# Altium footprint library TMDX654GPEVM_BRD.PcbLib: 153 footprints (part 9 of 12)
Each footprint in its own frame and in the unit in brackets; x right, y up, seen from the top. Pads: shape width x height; smd on the part's side, far side on the other; paste and mask are expansions set on the pad; w line width, h text height; cw(c..) or ccw(c..) is an arc to the next point about the centre after c.
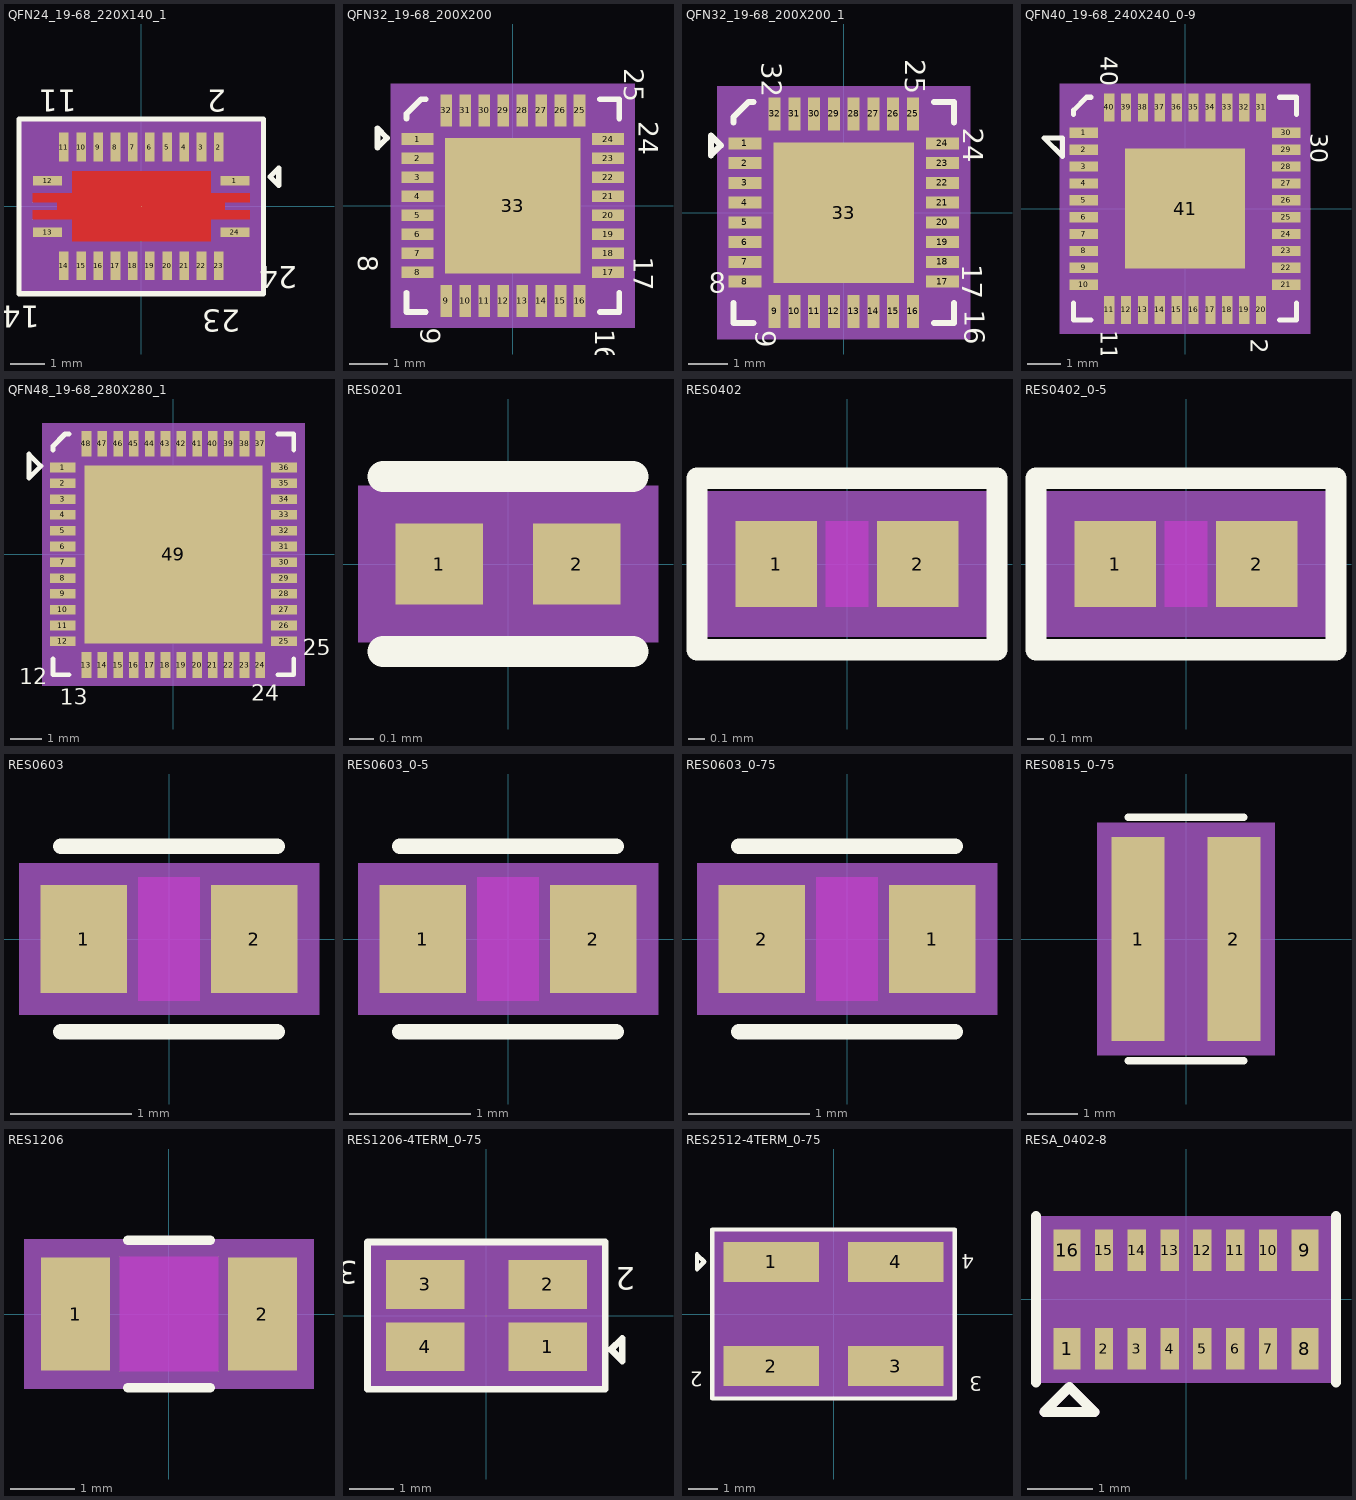
[diagram p8: the footprints below, top view; thin cyan lines are the x and y axes]

## QFN24_19-68_220X140_1 [mil] "QFN24_19-68_220X140_1"
pads (25):
  rect 33x11 smd: 1(107.28,29.53) 12(-107.28,29.53) 13(-107.28,-29.53) 24(107.28,-29.53)
  rect 11x33 smd: 2(88.58,67.91) 3(68.9,67.91) 4(49.21,67.91) 5(29.53,67.91) 6(9.84,67.91) 7(-9.84,67.91) 8(-29.53,67.91) 9(-49.21,67.91) 10(-68.9,67.91) 11(-88.58,67.91) 14(-88.58,-67.91) 15(-68.9,-67.91) 16(-49.21,-67.91) 17(-29.53,-67.91) 18(-9.84,-67.91) 19(9.84,-67.91) 20(29.53,-67.91) 21(49.21,-67.91) 22(68.9,-67.91) 23(88.58,-67.91)
  oct 1x1 smd: 25(0,0)
Top Layer:
  region: 79.3,40 -79.3,40 -79.3,14.84 -124.3,14.84 -124.3,5 -96.06,5 -96.06,-4.68 -124.3,-4.68 -124.3,-14.84 -79.3,-14.84 -79.3,-40 79.3,-40 79.3,-14.84 124.3,-14.84 124.3,-4.68 95.76,-4.68 95.76,5 124.3,5 124.3,14.84 79.3,14.84
  region: 79.3,40 -79.3,40 -79.3,14.84 -124.3,14.84 -124.3,5 -96.06,5 -96.06,-4.68 -124.3,-4.68 -124.3,-14.84 -79.3,-14.84 -79.3,-40 79.3,-40 79.3,-14.84 124.3,-14.84 124.3,-4.68 95.76,-4.68 95.76,5 124.3,5 124.3,14.84 79.3,14.84
Top Overlay:
  lines w6: -140,-100 -140,100 140,100 140,-100 -140,-100 ; 147.48,34 157.48,44 157.48,24 147.48,34
  text "24" at 178.48,-68.5 h25
  text "2" at 97.5,133.33 h25
  text "11" at -74,133.33 h25
  text "14" at -116.52,-113.5 h25
  text "23" at 113.48,-118.5 h25
Top Paste:
  region: 79.3,40 -79.3,40 -79.3,14.84 -124.3,14.84 -124.3,5 -96.06,5 -96.06,-4.68 -124.3,-4.68 -124.3,-14.84 -79.3,-14.84 -79.3,-40 79.3,-40 79.3,-14.84 124.3,-14.84 124.3,-4.68 95.76,-4.68 95.76,5 124.3,5 124.3,14.84 79.3,14.84
  region: 79.3,40 -79.3,40 -79.3,14.84 -124.3,14.84 -124.3,5 -96.06,5 -96.06,-4.68 -124.3,-4.68 -124.3,-14.84 -79.3,-14.84 -79.3,-40 79.3,-40 79.3,-14.84 124.3,-14.84 124.3,-4.68 95.76,-4.68 95.76,5 124.3,5 124.3,14.84 79.3,14.84
Top Solder:
  region: 82.3,43 82.3,17.84 127.3,17.84 127.3,2 98.76,2 98.76,-2 127.3,-2 127.3,-17.84 82.3,-17.84 82.3,-43 -82.3,-43 -82.3,-17.84 -127.3,-17.84 -127.3,-2 -99.06,-2 -99.06,2 -127.3,2 -127.3,17.84 -82.3,17.84 -82.3,43
  region: 82.3,43 82.3,17.84 127.3,17.84 127.3,2 98.76,2 98.76,-2 127.3,-2 127.3,-17.84 82.3,-17.84 82.3,-43 -82.3,-43 -82.3,-17.84 -127.3,-17.84 -127.3,-2 -99.06,-2 -99.06,2 -127.3,2 -127.3,17.84 -82.3,17.84 -82.3,43
Top Courtyard:
  dashed: 131.3,90.41 131.3,-90.41 -131.3,-90.41 -131.3,90.41
Top 3D Body:
  region: 140,-100 140,100 -140,100 -140,-100
Mechanical 15:
  lines w6: -110,-70 -110,70 110,70 110,-70 -110,-70 ; 112.5,30 127.5,45 127.5,15 112.5,30
  text "U105" at -48,10 h30
Mechanical 16:
  lines w6: -110,-70 -110,70 110,70 110,-70 -110,-70 ; 112.5,30 127.5,45 127.5,15 112.5,30
  text "U105" at -48,10 h30
Mechanical 17:
  lines w6: -110,-70 -110,70 110,70 110,-70 -110,-70 ; 112.5,30 127.5,45 127.5,15 112.5,30
  text "U105" at -48,10 h30
Mechanical 18:
  lines w6: -110,-70 -110,70 110,70 110,-70 -110,-70 ; 112.5,30 127.5,45 127.5,15 112.5,30
  text "U105" at -48,10 h30
Mechanical 19:
  lines w6: -110,-70 -110,70 110,70 110,-70 -110,-70 ; 112.5,30 127.5,45 127.5,15 112.5,30
  text "U105" at -48,10 h30
Mechanical47:
  text "23" at 65.25,-63.58 h10
  text "24" at 73.28,-22.86 h10
  text "1" at 91.28,36.19 h10
  text "22" at 45.56,-63.58 h10
  text "12" at -135,33.33 h10
  text "11" at -110,73.33 h10
  text "13" at -135,-26.67 h10
  text "25" at -8,0 h10
  text "14" at -111.92,-63.58 h10
  text "15" at -92.23,-63.58 h10
  text "16" at -72.55,-63.58 h10
  text "17" at -52.86,-63.58 h10
  text "18" at -33.18,-63.58 h10
  text "19" at -13.49,-63.58 h10
  text "20" at 6.19,-63.58 h10
  text "21" at 25.88,-63.58 h10
  text "7" at -23.51,75.25 h10
  text "6" at -3.82,75.25 h10
  text "2" at 74.92,75.25 h10
  text "3" at 55.23,75.25 h10
  text "8" at -43.19,75.25 h10
  text "9" at -62.88,75.25 h10
  text "4" at 35.55,75.25 h10
  text "10" at -90,73.33 h10
  text "5" at 15.86,75.25 h10
Top Assembly:
  lines w6: -110,-70 -110,70 110,70 110,-70 -110,-70 ; 112.5,30 127.5,45 127.5,15 112.5,30
  text ".Designator" at -48,10 h30
3D body: height 150, standoff 0, extent -140,-100 140,100

## QFN32_19-68_200X200 [mil] "QFN32_19-68_200X200"
pads (33):
  rect 33x12 smd: 1(-98.42,68.9) 2(-98.42,49.21) 3(-98.42,29.53) 4(-98.42,9.84) 5(-98.42,-9.84) 6(-98.42,-29.53) 7(-98.42,-49.21) 8(-98.42,-68.9) 17(98.42,-68.9) 18(98.42,-49.21) 19(98.42,-29.53) 20(98.42,-9.84) 21(98.42,9.84) 22(98.42,29.53) 23(98.42,49.21) 24(98.42,68.9)
  rect 12x33 smd: 9(-68.9,-98.42) 10(-49.21,-98.42) 11(-29.53,-98.42) 12(-9.84,-98.42) 13(9.84,-98.42) 14(29.53,-98.42) 15(49.21,-98.42) 16(68.9,-98.42) 25(68.9,98.42) 26(49.21,98.42) 27(29.53,98.42) 28(9.84,98.42) 29(-9.84,98.42) 30(-29.53,98.42) 31(-49.21,98.42) 32(-68.9,98.42)
  rect 140x140 smd: 33(0,0)
Top Overlay:
  lines w6: -110,-90 -110,-110 -90,-110 ; -110,90 -110,95 -95,110 -90,110 ; 90,-110 110,-110 110,-90 ; 90,110 110,110 110,90 ; -140,60 -140,80 -130,70 -140,60
  text ".Designator" at -150,-114.76 h30
  text "8" at -160,-51.26 h20
  text "9" at -95,-126.26 h20
  text "16" at 85,-127.76 h20
  text "17" at 125,-52.76 h20
  text "24" at 130,87.24 h20
  text "25" at 115,142.24 h20
Top Courtyard:
  dashed: -120.92,-120.92 -120.92,120.92 120.92,120.92 120.92,-120.92
Top 3D Body:
  region: -126,-126 -126,126 126,126 126,-126
Mechanical 15:
  lines w6: -115,60 -115,80 -105,70 -115,60 ; -100,-100 100,-100 100,100 -100,100 -100,-100
  text "U99" at -15,-34.76 h30
Mechanical 16:
  lines w6: -115,60 -115,80 -105,70 -115,60 ; -100,-100 100,-100 100,100 -100,100 -100,-100
  text "U99" at -15,-34.76 h30
Mechanical 17:
  lines w6: -115,60 -115,80 -105,70 -115,60 ; -100,-100 100,-100 100,100 -100,100 -100,-100
  text "U99" at -15,-34.76 h30
Mechanical 18:
  lines w6: -115,60 -115,80 -105,70 -115,60 ; -100,-100 100,-100 100,100 -100,100 -100,-100
  text "U99" at -15,-34.76 h30
Mechanical 19:
  lines w6: -115,60 -115,80 -105,70 -115,60 ; -100,-100 100,-100 100,100 -100,100 -100,-100
  text "U99" at -15,-34.76 h30
Mechanical47:
  text "31" at -49.21,90.42 h10
  text "27" at 29.53,90.42 h10
  text "28" at 9.84,90.42 h10
  text "29" at -9.84,90.42 h10
  text "33" at 0,-8 h10
  text "25" at 68.9,90.42 h10
  text "2" at -98.42,45.21 h10
  text "1" at -98.42,64.9 h10
  text "5" at -98.42,-13.84 h10
  text "3" at -98.42,25.53 h10
  text "4" at -98.42,5.84 h10
  text "30" at -29.53,90.42 h10
  text "8" at -98.42,-72.9 h10
  text "32" at -68.9,90.42 h10
  text "7" at -98.42,-53.21 h10
  text "26" at 49.21,90.42 h10
  text "13" at 9.84,-106.42 h10
  text "12" at -9.84,-106.42 h10
  text "18" at 98.42,-57.21 h10
  text "9" at -68.9,-102.42 h10
  text "14" at 29.53,-106.42 h10
  text "15" at 49.21,-106.42 h10
  text "6" at -98.42,-33.53 h10
  text "10" at -49.21,-106.42 h10
  text "17" at 98.42,-76.9 h10
  text "16" at 68.9,-106.42 h10
  text "11" at -29.53,-106.42 h10
  text "19" at 98.42,-37.53 h10
  text "24" at 98.42,60.9 h10
  text "23" at 98.42,41.21 h10
  text "22" at 98.42,21.53 h10
  text "21" at 98.42,1.84 h10
  text "20" at 98.42,-17.84 h10
Top Assembly:
  lines w6: -115,60 -115,80 -105,70 -115,60 ; -100,-100 100,-100 100,100 -100,100 -100,-100
Top Component Outline:
  text "32" at -80,142.24 h20
3D body: height 150, standoff 0, extent -126,-126 126,126

## QFN32_19-68_200X200_1 [mil] "QFN32_19-68_200X200_1"
pads (33):
  rect 33x12 smd: 1(-98.42,68.9) 2(-98.42,49.21) 3(-98.42,29.53) 4(-98.42,9.84) 5(-98.42,-9.84) 6(-98.42,-29.53) 7(-98.42,-49.21) 8(-98.42,-68.9) 17(98.42,-68.9) 18(98.42,-49.21) 19(98.42,-29.53) 20(98.42,-9.84) 21(98.42,9.84) 22(98.42,29.53) 23(98.42,49.21) 24(98.42,68.9)
  rect 12x33 smd: 9(-68.9,-98.42) 10(-49.21,-98.42) 11(-29.53,-98.42) 12(-9.84,-98.42) 13(9.84,-98.42) 14(29.53,-98.42) 15(49.21,-98.42) 16(68.9,-98.42) 25(68.9,98.42) 26(49.21,98.42) 27(29.53,98.42) 28(9.84,98.42) 29(-9.84,98.42) 30(-29.53,98.42) 31(-49.21,98.42) 32(-68.9,98.42)
  rect 140x140 smd: 33(0,0)
Top Overlay:
  lines w6: -110,-90 -110,-110 -90,-110 ; -110,90 -110,95 -95,110 -90,110 ; 90,-110 110,-110 110,-90 ; 90,110 110,110 110,90 ; -132.35,56.91 -132.35,76.91 -122.35,66.91 -132.35,56.91
  text ".Designator" at 104.85,189.74 h30
  text "8" at -134.29,-79.94 h20
  text "9" at -87.41,-117.07 h20
  text "16" at 120.89,-96.98 h20
  text "17" at 118.13,-51.73 h20
  text "24" at 119.24,84.56 h20
  text "25" at 61.3,152.98 h20
  text "32" at -81.62,149.67 h20
Top Courtyard:
  dashed: -120.92,-120.92 -120.92,120.92 120.92,120.92 120.92,-120.92
Top 3D Body:
  region: -126,-126 -126,126 126,126 126,-126
Mechanical 10:
  lines w6: -100,-100 100,-100 100,100 -100,100 -100,-100 ; -95,115 -75,115 -85,105 -95,115
  text "U32" at -15,36 h30
Mechanical 11:
  lines w6: -100,-100 100,-100 100,100 -100,100 -100,-100 ; -95,115 -75,115 -85,105 -95,115
  text "U32" at -15,36 h30
Mechanical 12:
  lines w6: -100,-100 100,-100 100,100 -100,100 -100,-100 ; -95,115 -75,115 -85,105 -95,115
  text "U32" at -15,36 h30
Mechanical 13:
  lines w6: -100,-100 100,-100 100,100 -100,100 -100,-100 ; -95,115 -75,115 -85,105 -95,115
  text "U32" at -15,36 h30
Mechanical 14:
  lines w6: -100,-100 100,-100 100,100 -100,100 -100,-100 ; -95,115 -75,115 -85,105 -95,115
  text "U32" at -15,36 h30
Mechanical47:
  text "13" at 9.84,-90.42 h10
  text "14" at 29.53,-90.42 h10
  text "10" at -49.21,-90.42 h10
  text "6" at -98.42,-25.53 h10
  text "2" at -98.42,53.21 h10
  text "23" at 98.42,57.21 h10
  text "19" at 98.42,-21.53 h10
  text "11" at -29.53,-90.42 h10
  text "31" at -49.21,106.42 h10
  text "29" at -9.84,106.42 h10
  text "30" at -29.53,106.42 h10
  text "27" at 29.53,106.42 h10
  text "28" at 9.84,106.42 h10
  text "22" at 98.42,37.53 h10
  text "24" at 98.42,76.9 h10
  text "4" at -98.42,13.84 h10
  text "16" at 68.9,-90.42 h10
  text "15" at 49.21,-90.42 h10
  text "9" at -68.9,-94.42 h10
  text "32" at -68.9,106.42 h10
  text "26" at 49.21,106.42 h10
  text "25" at 68.9,106.42 h10
  text "33" at 0,8 h10
  text "21" at 98.42,17.84 h10
  text "5" at -98.42,-5.84 h10
  text "20" at 98.42,-1.84 h10
  text "18" at 98.42,-41.21 h10
  text "1" at -98.42,72.9 h10
  text "12" at -9.84,-90.42 h10
  text "3" at -98.42,33.53 h10
  text "8" at -98.42,-64.9 h10
  text "7" at -98.42,-45.21 h10
  text "17" at 98.42,-60.9 h10
Top Assembly:
  lines w6: -100,-100 100,-100 100,100 -100,100 -100,-100 ; -95,115 -75,115 -85,105 -95,115
3D body: height 150, standoff 0, extent -126,-126 126,126

## QFN40_19-68_240X240_0-9 [mil] "QFN40_19-68_240X240_0-9"
pads (41):
  rect 33x12 smd: 1(-118.11,88.58) 2(-118.11,68.9) 3(-118.11,49.21) 4(-118.11,29.53) 5(-118.11,9.84) 6(-118.11,-9.84) 7(-118.11,-29.53) 8(-118.11,-49.21) 9(-118.11,-68.9) 10(-118.11,-88.58) 21(118.11,-88.58) 22(118.11,-68.9) 23(118.11,-49.21) 24(118.11,-29.53) 25(118.11,-9.84) 26(118.11,9.84) 27(118.11,29.53) 28(118.11,49.21) 29(118.11,68.9) 30(118.11,88.58)
  rect 12x33 smd: 11(-88.58,-118.11) 12(-68.9,-118.11) 13(-49.21,-118.11) 14(-29.53,-118.11) 15(-9.84,-118.11) 16(9.84,-118.11) 17(29.53,-118.11) 18(49.21,-118.11) 19(68.9,-118.11) 20(88.58,-118.11) 31(88.58,118.11) 32(68.9,118.11) 33(49.21,118.11) 34(29.53,118.11) 35(9.84,118.11) 36(-9.84,118.11) 37(-29.53,118.11) 38(-49.21,118.11) 39(-68.9,118.11) 40(-88.58,118.11)
  rect 140x140 smd: 41(0,0)
Top Overlay:
  lines w6: -130,-110 -130,-130 -110,-130 ; -130,110 -130,115 -115,130 -110,130 ; 110,-130 130,-130 130,-110 ; 110,130 130,130 130,110 ; -164.41,82.3 -143.2,82.3 -143.2,61.09 -164.41,82.3
  text ".Designator" at -148.5,216 h30
  text "11" at -98.5,-142 h20
  text "20" at 76.5,-152 h20
  text "30" at 146.5,88 h20
  text "40" at -98.5,178 h20
Top Courtyard:
  dashed: -140.61,-140.61 -140.61,140.61 140.61,140.61 140.61,-140.61
Top 3D Body:
  region: -146,-146 -146,146 146,146 146,-146
Mechanical 15:
  lines w6: -140,75 -140,105 -125,90 -140,75 ; -120,-120 120,-120 120,120 -120,120 -120,-120
  text "U75" at -13.5,-34 h30
Mechanical 16:
  lines w6: -140,75 -140,105 -125,90 -140,75 ; -120,-120 120,-120 120,120 -120,120 -120,-120
  text "U75" at -13.5,-34 h30
Mechanical 17:
  lines w6: -140,75 -140,105 -125,90 -140,75 ; -120,-120 120,-120 120,120 -120,120 -120,-120
  text "U75" at -13.5,-34 h30
Mechanical 18:
  lines w6: -140,75 -140,105 -125,90 -140,75 ; -120,-120 120,-120 120,120 -120,120 -120,-120
  text "U75" at -13.5,-34 h30
Mechanical 19:
  lines w6: -140,75 -140,105 -125,90 -140,75 ; -120,-120 120,-120 120,120 -120,120 -120,-120
  text "U75" at -13.5,-34 h30
Mechanical47:
  text "5" at -118.11,0.84 h10
  text "4" at -118.11,20.53 h10
  text "26" at 118.11,-3.16 h10
  text "27" at 118.11,16.53 h10
  text "22" at 118.11,-81.9 h10
  text "19" at 68.9,-126.11 h10
  text "20" at 88.58,-126.11 h10
  text "23" at 118.11,-62.21 h10
  text "18" at 49.21,-126.11 h10
  text "21" at 118.11,-101.58 h10
  text "15" at -9.84,-126.11 h10
  text "16" at 9.84,-126.11 h10
  text "3" at -118.11,40.21 h10
  text "36" at -9.84,110.11 h10
  text "37" at -29.53,110.11 h10
  text "28" at 118.11,36.21 h10
  text "34" at 29.53,110.11 h10
  text "33" at 49.21,110.11 h10
  text "24" at 118.11,-42.53 h10
  text "6" at -118.11,-18.84 h10
  text "11" at -88.58,-126.11 h10
  text "2" at -118.11,59.9 h10
  text "8" at -118.11,-58.21 h10
  text "10" at -118.11,-101.58 h10
  text "9" at -118.11,-77.9 h10
  text "30" at 118.11,75.58 h10
  text "32" at 68.9,110.11 h10
  text "13" at -49.21,-126.11 h10
  text "29" at 118.11,55.9 h10
  text "1" at -118.11,79.58 h10
  text "12" at -68.9,-126.11 h10
  text "7" at -118.11,-38.53 h10
  text "35" at 9.84,110.11 h10
  text "38" at -49.21,110.11 h10
  text "17" at 29.53,-126.11 h10
  text "14" at -29.53,-126.11 h10
  text "41" at 0,-8 h10
  text "25" at 118.11,-22.84 h10
  text "31" at 88.58,110.11 h10
  text "40" at -88.58,110.11 h10
  text "39" at -68.9,110.11 h10
Top Assembly:
  lines w6: -140,75 -140,105 -125,90 -140,75 ; -120,-120 120,-120 120,120 -120,120 -120,-120
Top Component Outline:
  text "10" at -186,-96.67 h20
  text "21" at 136.5,-92 h20
  text "31" at 74,153.33 h20
3D body: height 150, standoff 0, extent -146,-146 146,146

## QFN48_19-68_280X280_1 [mil] "QFN48_19-68_280X280_1"
pads (49):
  rect 32x12 smd: 1(-137.79,108.27) 2(-137.79,88.58) 3(-137.79,68.9) 4(-137.79,49.21) 5(-137.79,29.53) 6(-137.79,9.84) 7(-137.79,-9.84) 8(-137.79,-29.53) 9(-137.79,-49.21) 10(-137.79,-68.9) 11(-137.79,-88.58) 12(-137.79,-108.27) 25(137.79,-108.27) 26(137.79,-88.58) 27(137.79,-68.9) 28(137.79,-49.21) 29(137.79,-29.53) 30(137.79,-9.84) 31(137.79,9.84) 32(137.79,29.53) 33(137.79,49.21) 34(137.79,68.9) 35(137.79,88.58) 36(137.79,108.27)
  rect 12x32 smd: 13(-108.27,-137.79) 14(-88.58,-137.79) 15(-68.9,-137.79) 16(-49.21,-137.79) 17(-29.53,-137.79) 18(-9.84,-137.79) 19(9.84,-137.79) 20(29.53,-137.79) 21(49.21,-137.79) 22(68.9,-137.79) 23(88.58,-137.79) 24(108.27,-137.79) 37(108.27,137.79) 38(88.58,137.79) 39(68.9,137.79) 40(49.21,137.79) 41(29.53,137.79) 42(9.84,137.79) 43(-9.84,137.79) 44(-29.53,137.79) 45(-49.21,137.79) 46(-68.9,137.79) 47(-88.58,137.79) 48(-108.27,137.79)
  rect 222x222 smd: 49(0,0)
Top Overlay:
  lines w6: -150,-130 -150,-150 -130,-150 ; -150,130 -150,135 -135,150 -130,150 ; 130,-150 150,-150 150,-130 ; 130,150 150,150 150,130 ; -180,95 -180,125 -165,110 -180,95
  text ".Designator" at -247.84,136.49 h30
  text "25" at 161.37,-125.3 h20
  text "13" at -141.56,-187.37 h20
  text "12" at -192.32,-161.99 h20
  text "24" at 97.09,-182.41 h20
Top Courtyard:
  dashed: -159.79,-159.79 -159.79,159.79 159.79,159.79 159.79,-159.79
Top 3D Body:
  region: -163.5,-163.5 -163.5,163.5 163.5,163.5 163.5,-163.5
Mechanical 10:
  lines w6: -155,95 -155,125 -140,110 -155,95 ; -140,-140 140,-140 140,140 -140,140 -140,-140
  text "U31" at -36,-10 h30
Mechanical 11:
  lines w6: -155,95 -155,125 -140,110 -155,95 ; -140,-140 140,-140 140,140 -140,140 -140,-140
  text "U31" at -36,-10 h30
Mechanical 12:
  lines w6: -155,95 -155,125 -140,110 -155,95 ; -140,-140 140,-140 140,140 -140,140 -140,-140
  text "U31" at -36,-10 h30
Mechanical 13:
  lines w6: -155,95 -155,125 -140,110 -155,95 ; -140,-140 140,-140 140,140 -140,140 -140,-140
  text "U31" at -36,-10 h30
Mechanical 14:
  lines w6: -155,95 -155,125 -140,110 -155,95 ; -140,-140 140,-140 140,140 -140,140 -140,-140
  text "U31" at -36,-10 h30
Mechanical47:
  text "47" at -96.58,137.79 h10
  text "37" at 100.27,137.79 h10
  text "16" at -57.21,-137.79 h10
  text "28" at 129.79,-49.21 h10
  text "29" at 129.79,-29.53 h10
  text "25" at 129.79,-108.27 h10
  text "26" at 129.79,-88.58 h10
  text "44" at -37.53,137.79 h10
  text "5" at -141.79,29.53 h10
  text "32" at 129.79,29.53 h10
  text "49" at -8,0 h10
  text "34" at 129.79,68.9 h10
  text "40" at 41.21,137.79 h10
  text "19" at 1.84,-137.79 h10
  text "30" at 129.79,-9.84 h10
  text "41" at 21.53,137.79 h10
  text "9" at -141.79,-49.21 h10
  text "3" at -141.79,68.9 h10
  text "35" at 129.79,88.58 h10
  text "2" at -141.79,88.58 h10
  text "7" at -141.79,-9.84 h10
  text "4" at -141.79,49.21 h10
  text "33" at 129.79,49.21 h10
  text "15" at -76.9,-137.79 h10
  text "1" at -141.79,108.27 h10
  text "10" at -145.79,-68.9 h10
  text "8" at -141.79,-29.53 h10
  text "11" at -145.79,-88.58 h10
  text "48" at -116.27,137.79 h10
  text "13" at -116.27,-137.79 h10
  text "18" at -17.84,-137.79 h10
  text "36" at 129.79,108.27 h10
  text "24" at 100.27,-137.79 h10
  text "6" at -141.79,9.84 h10
  text "31" at 129.79,9.84 h10
  text "42" at 1.84,137.79 h10
  text "12" at -145.79,-108.27 h10
  text "46" at -76.9,137.79 h10
  text "39" at 60.9,137.79 h10
  text "45" at -57.21,137.79 h10
  text "17" at -37.53,-137.79 h10
  text "43" at -17.84,137.79 h10
  text "27" at 129.79,-68.9 h10
  text "38" at 80.58,137.79 h10
  text "14" at -96.58,-137.79 h10
  text "22" at 60.9,-137.79 h10
  text "21" at 41.21,-137.79 h10
  text "23" at 80.58,-137.79 h10
  text "20" at 21.53,-137.79 h10
Top Assembly:
  lines w6: -155,95 -155,125 -140,110 -155,95 ; -140,-140 140,-140 140,140 -140,140 -140,-140
Top Component Outline:
  text "48" at -125.28,162.46 h20
  text "37" at 73.64,158.05 h20
  text "36" at 177.72,98.52 h20
3D body: height 150, standoff 0, extent -163.5,-163.5 163.5,163.5

## RES0201 [mil] "RES0201"
pads (2):
  rect 14x13 smd: 1(-11.02,0) 2(11.02,0)
Top Overlay:
  lines w5: -20,-14 20,-14 ; -20,14 20,14
  text ".Designator" at -145.45,-8.04 h30
Top Courtyard:
  dashed: -24.02,-12.5 -24.02,12.5 24.02,12.5 24.02,-12.5
Top 3D Body:
  lines w1: -22.05,-10.63 22.05,-10.63 22.05,10.63 -22.05,10.63 -22.05,-10.63
Mechanical 10:
  lines w6: -10,-5 10,-5 10,5 -10,5 -10,-5
  text "R242" at -118,-15 h30
Mechanical 11:
  lines w6: -10,-5 10,-5 10,5 -10,5 -10,-5
  text "R242" at -118,-15 h30
Mechanical 12:
  lines w6: -10,-5 10,-5 10,5 -10,5 -10,-5
  text "R242" at -118,-15 h30
Mechanical 13:
  lines w6: -10,-5 10,-5 10,5 -10,5 -10,-5
  text "R242" at -118,-15 h30
Mechanical 14:
  lines w6: -10,-5 10,-5 10,5 -10,5 -10,-5
  text "R242" at -118,-15 h30
Mechanical47:
  text "1" at -15.02,0 h10
  text "2" at 7.02,0 h10
Top Assembly:
  lines w6: -10,-5 10,-5 10,5 -10,5 -10,-5

## RES0402 [mil] "RES0402"
pads (2):
  rect 19x20 smd: 1(-16.54,0) 2(16.54,0)
Top Layer keep-out:
  region: -5,-10 -5,10 5,10 5,-10
Top Overlay:
  lines w5: -35,-20 35,-20 35,20 -35,20 -35,-20
  text ".Designator" at -135.95,-37.52 h30
Top Courtyard:
  dashed: -33.04,-17 -33.04,17 33.04,17 33.04,-17
Top 3D Body:
  region: -29.92,-14.96 -29.92,14.96 29.92,14.96 29.92,-14.96
Mechanical 15:
  lines w6: -20,-10 20,-10 20,10 -20,10 -20,-10
  text "R430" at 80.05,-60.52 h30
Mechanical 16:
  lines w6: -20,-10 20,-10 20,10 -20,10 -20,-10
  text "R430" at 80.05,-60.52 h30
Mechanical 17:
  lines w6: -20,-10 20,-10 20,10 -20,10 -20,-10
  text "R430" at 80.05,-60.52 h30
Mechanical 18:
  lines w6: -20,-10 20,-10 20,10 -20,10 -20,-10
  text "R430" at 80.05,-60.52 h30
Mechanical 19:
  lines w6: -20,-10 20,-10 20,10 -20,10 -20,-10
  text "R430" at 80.05,-60.52 h30
Mechanical47:
  text "2" at 16.54,-4 h10
  text "1" at -16.54,-4 h10
Top Assembly:
  lines w6: -20,-10 20,-10 20,10 -20,10 -20,-10
3D body: height 150, standoff 0, extent -29.92,-14.96 29.92,14.96

## RES0402_0-5 [mil] "RES0402_0-5"
pads (2):
  rect 19x20 smd: 1(-16.54,0) 2(16.54,0)
Top Layer keep-out:
  region: -5,-10 5,-10 5,10 -5,10
Top Overlay:
  lines w5: -35,-20 35,-20 35,20 -35,20 -35,-20
  text ".Designator" at -133.12,-12.5 h30
Top Courtyard:
  dashed: -33.04,-17 -33.04,17 33.04,17 33.04,-17
Top 3D Body:
  region: -29.92,-14.96 -29.92,14.96 29.92,14.96 29.92,-14.96
Mechanical 10:
  lines w6: -20,-10 20,-10 20,10 -20,10 -20,-10
  text "R321" at -80.12,38.5 h30
Mechanical 11:
  lines w6: -20,-10 20,-10 20,10 -20,10 -20,-10
  text "R321" at -80.12,38.5 h30
Mechanical 12:
  lines w6: -20,-10 20,-10 20,10 -20,10 -20,-10
  text "R321" at -80.12,38.5 h30
Mechanical 13:
  lines w6: -20,-10 20,-10 20,10 -20,10 -20,-10
  text "R321" at -80.12,38.5 h30
Mechanical 14:
  lines w6: -20,-10 20,-10 20,10 -20,10 -20,-10
  text "R321" at -80.12,38.5 h30
Mechanical47:
  text "2" at 16.54,4 h10
  text "1" at -16.54,4 h10
Top Assembly:
  lines w6: -20,-10 20,-10 20,10 -20,10 -20,-10
3D body: height 150, standoff 0, extent -29.92,-14.96 29.92,14.96

## RES0603 [mil] "RES0603"
pads (2):
  rect 28x35 smd: 1(-27.56,0) 2(27.56,0)
Top Layer keep-out:
  region: -10,20 -10,-20 10,-20 10,20
Top Overlay:
  lines w5: -35,-30 35,-30 ; -35,30 35,30
  text ".Designator" at 52.7,78.15 h30
Top Courtyard:
  dashed: -48.56,-24.5 -48.56,24.5 48.56,24.5 48.56,-24.5
Top 3D Body:
  region: -45.28,-23.62 -45.28,23.62 45.28,23.62 45.28,-23.62
Mechanical 15:
  lines w6: -35,-20 35,-20 35,20 -35,20 -35,-20
  text "R362" at -51.3,68.15 h30
Mechanical 16:
  lines w6: -35,-20 35,-20 35,20 -35,20 -35,-20
  text "R362" at -51.3,68.15 h30
Mechanical 17:
  lines w6: -35,-20 35,-20 35,20 -35,20 -35,-20
  text "R362" at -51.3,68.15 h30
Mechanical 18:
  lines w6: -35,-20 35,-20 35,20 -35,20 -35,-20
  text "R362" at -51.3,68.15 h30
Mechanical 19:
  lines w6: -35,-20 35,-20 35,20 -35,20 -35,-20
  text "R362" at -51.3,68.15 h30
Mechanical47:
  text "1" at -31.56,0 h10
  text "2" at 23.56,0 h10
Top Assembly:
  lines w6: -35,-20 35,-20 35,20 -35,20 -35,-20
3D body: height 150, standoff 0, extent -45.28,-23.62 45.28,23.62

## RES0603_0-5 [mil] "RES0603_0-5"
pads (2):
  rect 28x35 smd: 1(-27.56,0) 2(27.56,0)
Top Layer keep-out:
  region: -10,20 -10,-20 10,-20 10,20
Top Overlay:
  lines w5: -35,-30 35,-30 ; -35,30 35,30
  text ".Designator" at 43,80.65 h30
Top Courtyard:
  dashed: -48.56,-24.5 -48.56,24.5 48.56,24.5 48.56,-24.5
Top 3D Body:
  region: -45.28,-23.62 -45.28,23.62 45.28,23.62 45.28,-23.62
Mechanical 15:
  lines w6: -35,-20 35,-20 35,20 -35,20 -35,-20
  text "R354" at 17,123.65 h30
Mechanical 16:
  lines w6: -35,-20 35,-20 35,20 -35,20 -35,-20
  text "R354" at 17,123.65 h30
Mechanical 17:
  lines w6: -35,-20 35,-20 35,20 -35,20 -35,-20
  text "R354" at 17,123.65 h30
Mechanical 18:
  lines w6: -35,-20 35,-20 35,20 -35,20 -35,-20
  text "R354" at 17,123.65 h30
Mechanical 19:
  lines w6: -35,-20 35,-20 35,20 -35,20 -35,-20
  text "R354" at 17,123.65 h30
Mechanical47:
  text "2" at 27.56,4 h10
  text "1" at -27.56,4 h10
Top Assembly:
  lines w6: -35,-20 35,-20 35,20 -35,20 -35,-20
3D body: height 150, standoff 0, extent -45.28,-23.62 45.28,23.62

## RES0603_0-75 [mil] "RES0603_0-75"
pads (2):
  rect 28x35 smd: 1(27.56,0) 2(-27.56,0)
Top Layer keep-out:
  region: 10,-20 10,20 -10,20 -10,-20
Top Overlay:
  lines w5: -35,-30 35,-30 ; -35,30 35,30
  text ".Designator" at 133,14 h30
Top Courtyard:
  dashed: 48.56,24.5 48.56,-24.5 -48.56,-24.5 -48.56,24.5
Top 3D Body:
  region: 45.28,23.62 45.28,-23.62 -45.28,-23.62 -45.28,23.62
Mechanical 15:
  lines w6: -35,-20 -35,20 35,20 35,-20 -35,-20
  text "R17" at 50,16 h30
Mechanical 16:
  lines w6: -35,-20 -35,20 35,20 35,-20 -35,-20
  text "R17" at 50,16 h30
Mechanical 17:
  lines w6: -35,-20 -35,20 35,20 35,-20 -35,-20
  text "R17" at 50,16 h30
Mechanical 18:
  lines w6: -35,-20 -35,20 35,20 35,-20 -35,-20
  text "R17" at 50,16 h30
Mechanical 19:
  lines w6: -35,-20 -35,20 35,20 35,-20 -35,-20
  text "R17" at 50,16 h30
Mechanical47:
  text "2" at -31.56,0 h10
  text "1" at 23.56,0 h10
Top Assembly:
  lines w6: -35,-20 -35,20 35,20 35,-20 -35,-20
3D body: height 150, standoff 0, extent -45.28,-23.62 45.28,23.62

## RES0815_0-75 [mil] "RES0815_0-75"
pads (2):
  rect 41x159 smd: 1(-37.4,0) 2(37.4,0)
Top Overlay:
  lines w6: -45,-95 45,-95 ; -45,95 45,95
  text ".Designator" at -13.31,-107.16 h30
Top Courtyard:
  dashed: -64.9,-87 -64.9,87 64.9,87 64.9,-87
Top 3D Body:
  region: -69,-90.5 -69,90.5 69,90.5 69,-90.5
Mechanical 10:
  lines w6: -45,-80 45,-80 45,80 -45,80 -45,-80
  text "R62" at -15,34 h30
Mechanical 11:
  lines w6: -45,-80 45,-80 45,80 -45,80 -45,-80
  text "R62" at -15,34 h30
Mechanical 12:
  lines w6: -45,-80 45,-80 45,80 -45,80 -45,-80
  text "R62" at -15,34 h30
Mechanical 13:
  lines w6: -45,-80 45,-80 45,80 -45,80 -45,-80
  text "R62" at -15,34 h30
Mechanical 14:
  lines w6: -45,-80 45,-80 45,80 -45,80 -45,-80
  text "R62" at -15,34 h30
Mechanical47:
  text "1" at -37.4,4 h10
  text "2" at 37.4,4 h10
Top Assembly:
  lines w6: -45,-80 45,-80 45,80 -45,80 -45,-80
3D body: height 150, standoff 0, extent -69,-90.5 69,90.5

## RES1206 [mil] "RES1206"
pads (2):
  rect 42x69 smd: 1(-57.09,0) 2(57.09,0)
Top Layer keep-out:
  region: -30,35 -30,-35 30,-35 30,35
Top Overlay:
  lines w6: -25,-45 25,-45 ; -25,45 25,45
Top Courtyard:
  dashed: -85.09,-41.5 -85.09,41.5 85.09,41.5 85.09,-41.5
Top 3D Body:
  region: -88.5,-45.5 -88.5,45.5 88.5,45.5 88.5,-45.5
Mechanical 10:
  lines w6: -65,-35 65,-35 65,35 -65,35 -65,-35
  text "R5" at -24.5,-20 h30
Mechanical 11:
  lines w6: -65,-35 65,-35 65,35 -65,35 -65,-35
  text "R5" at -24.5,-20 h30
Mechanical 12:
  lines w6: -65,-35 65,-35 65,35 -65,35 -65,-35
  text "R5" at -24.5,-20 h30
Mechanical 13:
  lines w6: -65,-35 65,-35 65,35 -65,35 -65,-35
  text "R5" at -24.5,-20 h30
Mechanical 14:
  lines w6: -65,-35 65,-35 65,35 -65,35 -65,-35
  text "R5" at -24.5,-20 h30
Mechanical47:
  text "2" at 57.09,4 h10
  text "1" at -57.09,4 h10
Top Assembly:
  lines w6: -65,-35 65,-35 65,35 -65,35 -65,-35
  text ".Designator" at -24.5,-20 h30
3D body: height 150, standoff 0, extent -88.5,-45.5 88.5,45.5

## RES1206-4TERM_0-75 [mil] "RES1206-4TERM_0-75"
pads (4):
  rect 69x43 smd: 1(54.13,-27.56) 2(54.13,27.56) 3(-54.13,27.56) 4(-54.13,-27.56)
Top Overlay:
  lines w6: -105,-65 -105,65 105,65 105,-65 -105,-65 ; 110,-30 120,-40 120,-20 110,-30
  text ".Designator" at -145.99,19 h30
  text "3" at -113.49,48 h20
  text "2" at 131.51,43 h20
Top Courtyard:
  dashed: 95.63,56.06 95.63,-56.06 -95.63,-56.06 -95.63,56.06
Top 3D Body:
  region: 105,-65 105,65 -105,65 -105,-65
Mechanical 15:
  lines w6: -65,-35 -65,35 65,35 65,-35 -65,-35 ; 70.99,-33 80.99,-23 80.99,-43 70.99,-33
  text "R349" at 41.01,11 h30
Mechanical 16:
  lines w6: -65,-35 -65,35 65,35 65,-35 -65,-35 ; 70.99,-33 80.99,-23 80.99,-43 70.99,-33
  text "R349" at 41.01,11 h30
Mechanical 17:
  lines w6: -65,-35 -65,35 65,35 65,-35 -65,-35 ; 70.99,-33 80.99,-23 80.99,-43 70.99,-33
  text "R349" at 41.01,11 h30
Mechanical 18:
  lines w6: -65,-35 -65,35 65,35 65,-35 -65,-35 ; 70.99,-33 80.99,-23 80.99,-43 70.99,-33
  text "R349" at 41.01,11 h30
Mechanical 19:
  lines w6: -65,-35 -65,35 65,35 65,-35 -65,-35 ; 70.99,-33 80.99,-23 80.99,-43 70.99,-33
  text "R349" at 41.01,11 h30
Mechanical47:
  text "2" at 45.47,34.89 h10
  text "3" at -62.8,34.89 h10
  text "4" at -62.8,-20.23 h10
  text "1" at 45.47,-20.23 h10
Top Assembly:
  lines w6: -65,-35 -65,35 65,35 65,-35 -65,-35 ; 70.99,-33 80.99,-23 80.99,-43 70.99,-33
3D body: height 150, standoff 0, extent -105,-65 105,65

## RES2512-4TERM_0-75 [mil] "RES2512-4TERM_0-75"
pads (4):
  rect 130x55 smd: 1(-84.65,70.87) 2(-84.65,-70.87) 3(84.65,-70.87) 4(84.65,70.87)
Top Overlay:
  lines w6: -186,61.1 -186,81.1 -176,71.1 -186,61.1 ; -165,-115 -165,115 165,115 165,-115 -165,-115
  text ".Designator" at -211,37.1 h30
  text "4" at 191.5,81.1 h20
  text "3" at 202.5,-85 h20
  text "2" at -178.5,-78.9 h20
Top Courtyard:
  dashed: -156.65,-105.37 -156.65,105.37 156.65,105.37 156.65,-105.37
Top 3D Body:
  region: -165,-115 -165,115 165,115 165,-115
Mechanical 15:
  lines w6: -130,-65 130,-65 130,65 -130,65 -130,-65 ; -95,80 -75,80 -85,70 -95,80
  text "R459" at 49,17 h30
Mechanical 16:
  lines w6: -130,-65 130,-65 130,65 -130,65 -130,-65 ; -95,80 -75,80 -85,70 -95,80
  text "R459" at 49,17 h30
Mechanical 17:
  lines w6: -130,-65 130,-65 130,65 -130,65 -130,-65 ; -95,80 -75,80 -85,70 -95,80
  text "R459" at 49,17 h30
Mechanical 18:
  lines w6: -130,-65 130,-65 130,65 -130,65 -130,-65 ; -95,80 -75,80 -85,70 -95,80
  text "R459" at 49,17 h30
Mechanical 19:
  lines w6: -130,-65 130,-65 130,65 -130,65 -130,-65 ; -95,80 -75,80 -85,70 -95,80
  text "R459" at 49,17 h30
Mechanical47:
  text "4" at 80.65,70.87 h10
  text "1" at -88.65,70.87 h10
  text "2" at -88.65,-70.87 h10
  text "3" at 80.65,-70.87 h10
Top Assembly:
  lines w6: -130,-65 130,-65 130,65 -130,65 -130,-65 ; -95,80 -75,80 -85,70 -95,80
3D body: height 150, standoff 0, extent -165,-115 165,115

## RESA_0402-8 [mm] "RESA_0402-8"
pads (16):
  rect 0.406x0.635 smd: 1(-1.813,-0.75) 8(1.813,-0.75) 9(1.813,0.75) 16(-1.813,0.75)
  rect 0.279x0.635 smd: 2(-1.25,-0.75) 3(-0.75,-0.75) 4(-0.25,-0.75) 5(0.25,-0.75) 6(0.75,-0.75) 7(1.25,-0.75) 10(1.25,0.75) 11(0.75,0.75) 12(0.25,0.75) 13(-0.25,0.75) 14(-0.75,0.75) 15(-1.25,0.75)
Top Overlay:
  lines w0.152: -2.286,-1.27 -2.286,1.27 ; 2.286,-1.27 2.286,1.27 ; -2.159,-1.714 -1.778,-1.333 -1.397,-1.714 -2.159,-1.714
  text ".Designator" at 0.773,2.317 h0.76
Top Courtyard:
  dashed: -2.21,-1.245 -2.21,1.245 2.21,1.245 2.21,-1.245
Top 3D Body:
  region: -2.286,-1.27 2.286,-1.27 2.286,1.27 -2.286,1.27
Mechanical47:
  text "10" at 1.25,0.826 h0.25
  text "8" at 1.813,-0.775 h0.25
  text "4" at -0.25,-0.775 h0.25
  text "7" at 1.25,-0.775 h0.25
  text "1" at -1.813,-0.775 h0.25
  text "2" at -1.25,-0.775 h0.25
  text "16" at -1.813,0.826 h0.25
  text "14" at -0.75,0.826 h0.25
  text "13" at -0.25,0.826 h0.25
  text "9" at 1.813,0.725 h0.25
  text "12" at 0.25,0.826 h0.25
  text "3" at -0.75,-0.775 h0.25
  text "5" at 0.25,-0.775 h0.25
  text "11" at 0.75,0.826 h0.25
  text "15" at -1.25,0.826 h0.25
  text "6" at 0.75,-0.775 h0.25
Top Assembly:
  lines w0.152: -2.159,-1.714 -1.778,-1.333 -1.397,-1.714 -2.159,-1.714 ; -2.032,-0.889 2.032,-0.889 2.032,0.889 -2.032,0.889 -2.032,-0.889
3D body: height 3.81, standoff 0, extent -2.286,-1.27 2.286,1.27